# EAGLE library part SSM2250 (library ssm2250)
Mono 1.5 W/Stereo 250 mW Power Amplifier Source: http://www.analog.com/static/imported-files/data_sheets/SSM2250.pdf
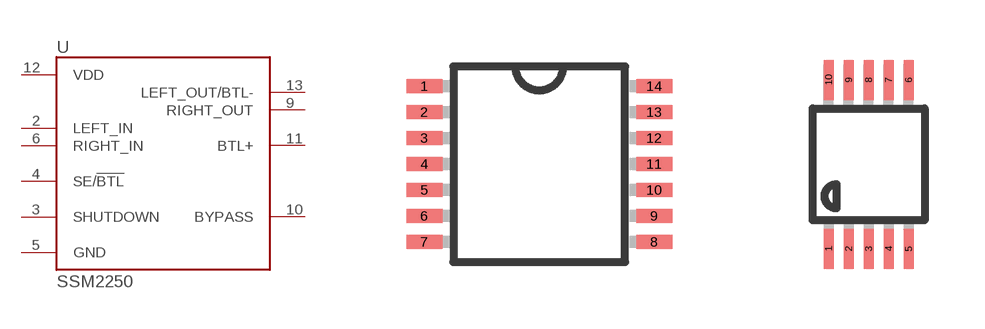
[diagram p0: symbol with the pads of TSSOP14; footprints TSSOP14, MSOP10]

Designator prefix -

## SSM2250RU  [TSSOP14]
2  LEFT_IN  in
3  SHUTDOWN  in
4  SE/!BTL  in
5  GND  pwr
6  RIGHT_IN  in
9  RIGHT_OUT  out
10  BYPASS  pas
11  BTL+  out
12  VDD  pwr
13  LEFT_OUT/BTL-  out

## SSM2250RM  [MSOP10]
1  LEFT_IN  in
2  SHUTDOWN  in
3  SE/!BTL  in
4  GND  pwr
5  RIGHT_IN  in
6  RIGHT_OUT  out
7  BYPASS  pas
8  BTL+  out
9  VDD  pwr
10  LEFT_OUT/BTL-  out

## Footprint TSSOP14 (pad centres in mm)
14-Lead Thin Shrink Small Outline Package [TSSOP] Source: Analog Devices .. 780914713ADD8704_0.pdf
smd 0.9 x 0.35: 1 -2.875,1.95; 2 -2.875,1.3; 3 -2.875,0.65; 4 -2.875,0; 5 -2.875,-0.65; 6 -2.875,-1.3; 7 -2.875,-1.95; 8 2.875,-1.95; 9 2.875,-1.3; 10 2.875,-0.65; 11 2.875,0; 12 2.875,0.65; 13 2.875,1.3; 14 2.875,1.95

## Footprint MSOP10 (pad centres in mm)
10-Lead Mini Small Outline Package [MSOP] (RM-10) Source: http://www.analog.com/UploadedFiles/Data_Sheets/35641221898805SSM2167_b.pdf COMPLIANT TO JEDEC STANDARDS MO-187BA
smd 0.25 x 1: 1 -1,-2.113; 2 -0.5,-2.113; 3 0,-2.113; 4 0.5,-2.113; 5 1,-2.113; 6 1,2.113; 7 0.5,2.113; 8 0,2.113; 9 -0.5,2.113; 10 -1,2.113